# Altium schematic symbol library Nosrati.SchLib: 192 symbols (part 3 of 3)
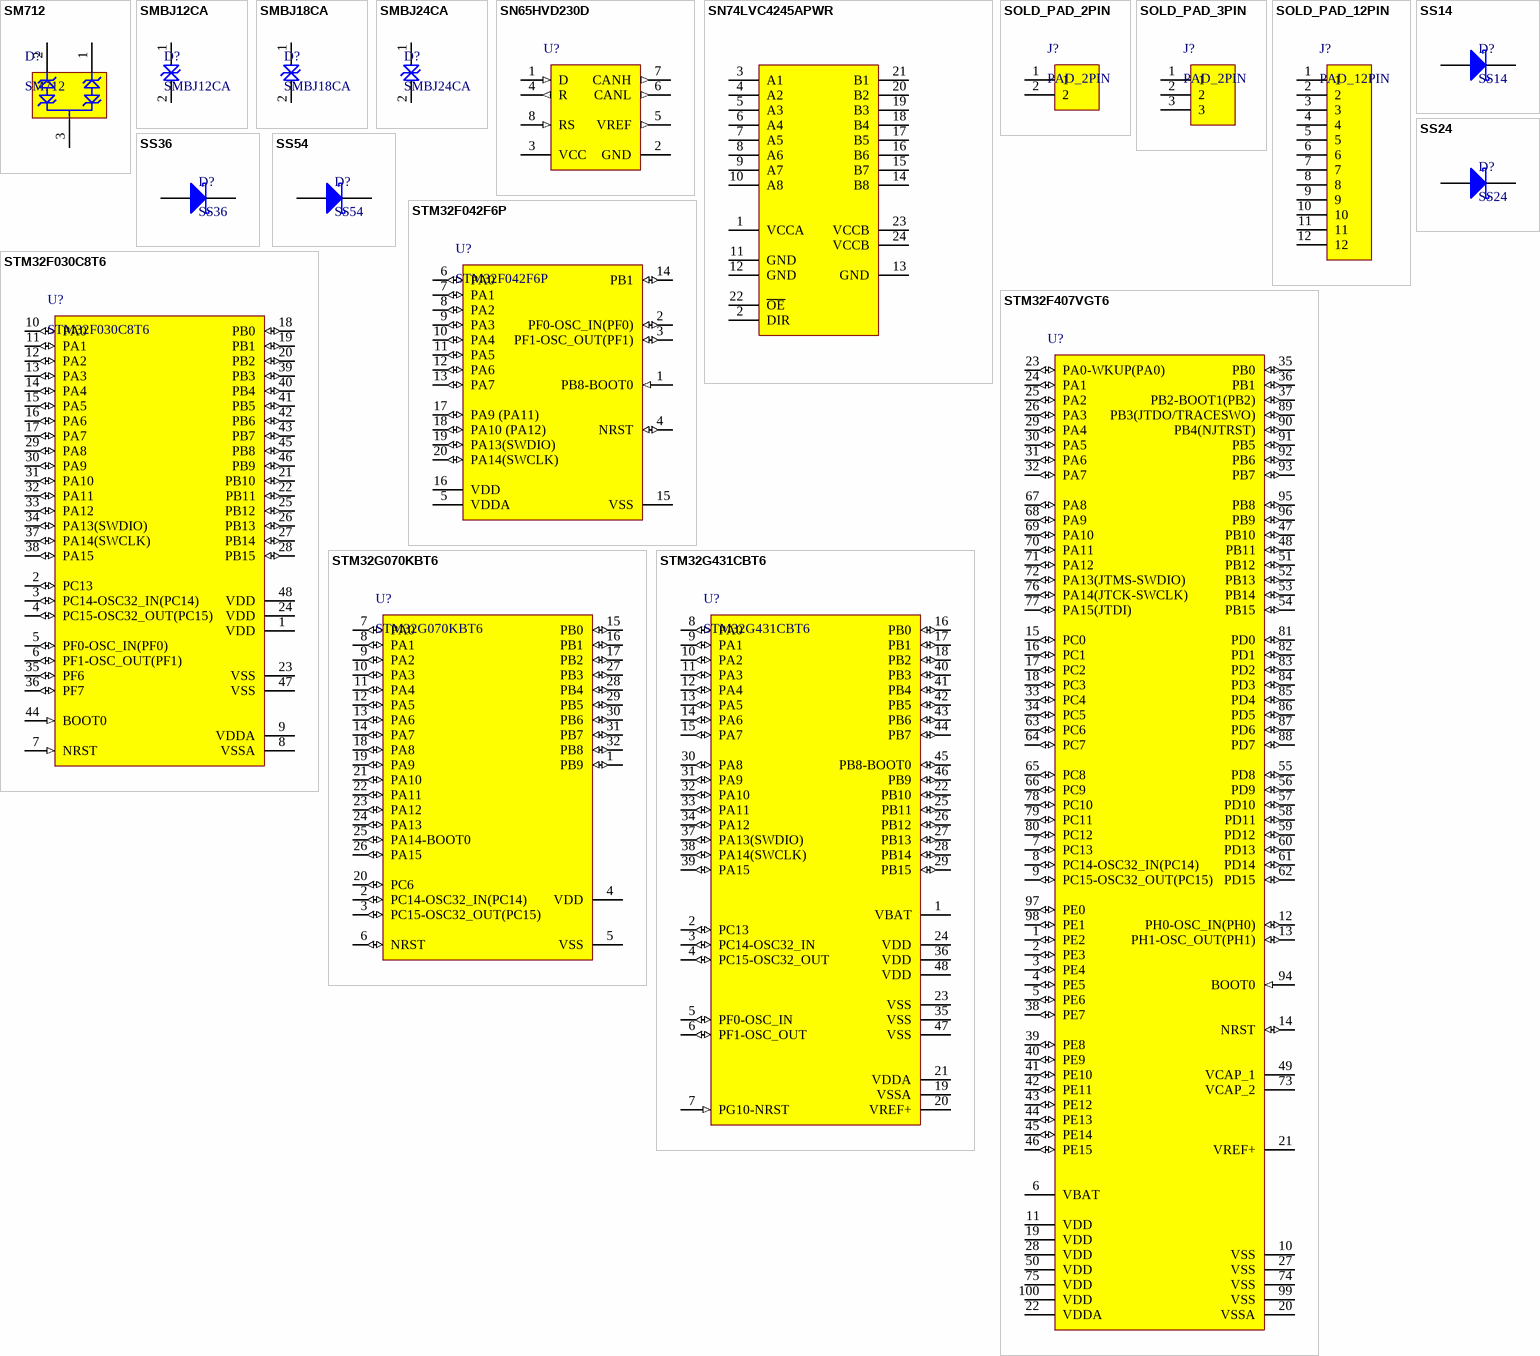
[diagram p7: symbols SM712 to STM32G431CBT6]

## STM32F407VGT6
designator U?
ARM Cortex-M4 32-bit MCU+FPU, 210 DMIPS, 1024 kB Flash, 192 kB Internal RAM, 82 I/Os, 100-pin LQFP, -40 to 85 degC, Tray; Manufacturer: STMicroelectronics; PartNumber: STM32F407VGT6; D/A Converter: 2x12-bit; FLASH Size (Prog) (kB): 1024; I/Os (High Current): 82; Internal RAM Size (kB): 192; Operating Frequency(F) (Processor speed) (MHz): 168; Supply Voltage(Vcc) max (V): 3.6; Supply Voltage(Vcc) min (V): 1.8; DatasheetVersion: Rev. 4; PackageVersion: Rev. 1, 06/2013; PackageReference: LQFP100; PackageDescription: 100-Pin Low Profile Quad Flat Package, 14 x 14 mm Body, 0.5 mm Pitch; Supplier 1: Digi-Key; Supplier Part Number 1: 497-11605-ND; Supplier 2: Farnell; Supplier Part Number 2: 2064368; Supplier 3: Newark; Supplier Part Number 3: 73T2333; Supplier 4: Mouser; Supplier Part Number 4: 511-STM32F407VGT6; Core: ARM Cortex-M4; Packing: Tray; Mounting Technology: Surface Mount; ComponentLink1Description: Manufacturer URL; ComponentLink1URL: http://www.st.com/web/en/home.html; ComponentLink2Description: Datasheet; ComponentLink2URL: http://www.st.com/st-web-ui/static/active/en/resource/technical/document/datasheet/DM00037051.pdf; ComponentLink3Description: Package Specification; ComponentLink3URL: http://www.st.com/st-web-ui/static/active/en/resource/technical/document/data_brief/DM00071938.pdf
footprint LQFP_100_L
footprint LQFP_100_M
footprint LQFP_100_N
pins: 1 PE2 (io) "PE2/TRACECLK/FSMC_A23/ETH_MII_TXD3/EVENTOUT", 2 PE3 (io) "PE3/TRACED0/FSMC_A19/EVENTOUT", 3 PE4 (io) "PE4/TRACED1/FSMC_A20/DCMI_D4/EVENTOUT", 4 PE5 (io) "PE5/TRACED2/FSMC_A21/TIM9_CH1/DCMI_D6/EVENTOUT", 5 PE6 (io) "PE6/TRACED3/FSMC_A22/TIM9_CH2/DCMI_D7/EVENTOUT", 6 VBAT (power), 7 PC13 (io) "PC13/EVENTOUT/RTC_OUT,RTC_TAMP1,RTC_TS", 8 PC14-OSC32_IN(PC14) (io) "PC14-OSC32_IN(PC14)/EVENTOUT/OSC32_IN", 9 PC15-OSC32_OUT(PC15) (io) "PC15-OSC32_OUT(PC15)/EVENTOUT/OSC32_OUT", 10 VSS (power), 11 VDD (power), 12 PH0-OSC_IN(PH0) (io) "PH0-OSC_IN(PH0)/EVENTOUT/OSC_IN", 13 PH1-OSC_OUT(PH1) (io) "PH1-OSC_OUT(PH1)/EVENTOUT/OSC_OUT", 14 NRST (io), 15 PC0 (io) "PC0/OTG_HS_ULPI_STP/EVENTOUT/ADC123_IN10", 16 PC1 (io) "PC1/ETH_MDC/EVENTOUT/ADC123_IN11", 17 PC2 (io) "PC2/SPI2_MISO/OTG_HS_ULPI_DIR/ETH_MII_TXD2/I2S2ext_SD/EVENTOUT/ADC123_IN12", 18 PC3 (io) "PC3/SPI2_MOSI/I2S2_SD/OTG_HS_ULPI_NXT/ETH_MII_TX_CLK/EVENTOUT/ADC123_IN13", 19 VDD (power), 20 VSSA (power), 21 VREF+ (power), 22 VDDA (power), 23 PA0-WKUP(PA0) (io) "PA0-WKUP(PA0)/USART2_CTS/UART4_TX/ETH_MII_CRS/TIM2_CH1_ETR/TIM5_CH1/TIM8_ETR/EVENTOUT/ADC123_IN0/WKUP", 24 PA1 (io) "PA1/USART2_RTS/UART4_RX/ETH_RMII_REF_CLK/ETH_MII_RX_CLK/TIM5_CH2/TIM2_CH2/EVENTOUT/ADC123_IN1", 25 PA2 (io) "PA2/USART2_TX/TIM5_CH3/TIM9_CH1/TIM2_CH3/ETH_MDIO/EVENTOUT/ADC123_IN2", 26 PA3 (io) "PA3/USART2_RX/TIM5_CH4/TIM9_CH2/TIM2_CH4/OTG_HS_ULPI_D0/ETH_MII_COL/EVENTOUT/ADC123_IN3", 27 VSS (power), 28 VDD (power), 29 PA4 (io) "PA4/SPI1_NSS/SPI3_NSS/USART2_CK/DCMI_HSYNC/OTG_HS_SOF/I2S3_WS/EVENTOUT/ADC12_IN4/DAC_OUT1", 30 PA5 (io) "PA5/SPI1_SCK/OTG_HS_ULPI_CK/TIM2_CH1_ETR/TIM8_CH1N/EVENTOUT/ADC12_IN5/DAC_OUT2", 31 PA6 (io) "PA6/SPI1_MISO/TIM8_BKIN/TIM13_CH1/DCMI_PIXCLK/TIM3_CH1/TIM1_BKIN/EVENTOUT/ADC12_IN6", 32 PA7 (io) "PA7/SPI1_MOSI/TIM8_CH1N/TIM14_CH1/TIM3_CH2/ETH_MII_RX_DV/TIM1_CH1N/ETH_RMII_CRS_DV/EVENTOUT/ADC12_IN7", 33 PC4 (io) "PC4/ETH_RMII_RX_D0/ETH_MII_RX_D0/EVENTOUT/ADC12_IN14", 34 PC5 (io) "PC5/ETH_RMII_RX_D1/ETH_MII_RX_D1/EVENTOUT/ADC12_IN15", 35 PB0 (io) "PB0/TIM3_CH3/TIM8_CH2N/OTG_HS_ULPI_D1/ETH_MII_RXD2/TIM1_CH2N/EVENTOUT/ADC12_IN8", 36 PB1 (io) "PB1/TIM3_CH4/TIM8_CH3N/OTG_HS_ULPI_D2/ETH_MII_RXD3/TIM1_CH3N/EVENTOUT/ADC12_IN9", 37 PB2-BOOT1(PB2) (io) "PB2-BOOT1(PB2)/EVENTOUT", 38 PE7 (io) "PE7/FSMC_D4/TIM1_ETR/EVENTOUT", 39 PE8 (io) "PE8/FSMC_D5/TIM1_CH1N/EVENTOUT", 40 PE9 (io) "PE9/FSMC_D6/TIM1_CH1/EVENTOUT", 41 PE10 (io) "PE10/FSMC_D7/TIM1_CH2N/EVENTOUT", 42 PE11 (io) "PE11/FSMC_D8/TIM1_CH2/EVENTOUT", 43 PE12 (io) "PE12/FSMC_D9/TIM1_CH3N/EVENTOUT", 44 PE13 (io) "PE13/FSMC_D10/TIM1_CH3/EVENTOUT", 45 PE14 (io) "PE14/FSMC_D11/TIM1_CH4/EVENTOUT", 46 PE15 (io) "PE15/FSMC_D12/TIM1_BKIN/EVENTOUT", 47 PB10 (io) "PB10/SPI2_SCK/I2S2_CK/I2C2_SCL/USART3_TX/OTG_HS_ULPI_D3/ETH_MII_RX_ER/TIM2_CH3/EVENTOUT", 48 PB11 (io) "PB11/I2C2_SDA/USART3_RX/OTG_HS_ULPI_D4/ETH_RMII_TX_EN/ETH_MII_TX_EN/TIM2_CH4/EVENTOUT", 49 VCAP_1 (power), 50 VDD (power), 51 PB12 (io) "PB12/SPI2_NSS/I2S2_WS/I2C2_SMBA/USART3_CK/TIM1_BKIN/CAN2_RX/OTG_HS_ULPI_D5/ETH_RMII_TXD0/ETH_MII_TXD0/OTG_HS_ID/EVENTOUT", 52 PB13 (io) "PB13/SPI2_SCK/I2S2_CK/USART3_CTS/TIM1_CH1N/CAN2_TX/OTG_HS_ULPI_D6/ETH_RMII_TXD1/ETH_MII_TXD1/EVENTOUT/OTG_HS_VBUS", 53 PB14 (io) "PB14/SPI2_MISO/TIM1_CH2N/TIM12_CH1/OTG_HS_DM/USART3_RTS/TIM8_CH2N/I2S2ext_SD/EVENTOUT", 54 PB15 (io) "PB15/SPI2_MOSI/I2S2_SD/TIM1_CH3N/TIM8_CH3N/TIM12_CH2/OTG_HS_DP/EVENTOUT/RTC_REFIN", 55 PD8 (io) "PD8/FSMC_D13/USART3_TX/EVENTOUT", 56 PD9 (io) "PD9/FSMC_D14/USART3_RX/EVENTOUT", 57 PD10 (io) "PD10/FSMC_D15/USART3_CK/EVENTOUT", 58 PD11 (io) "PD11/FSMC_CLE/FSMC_A16/USART3_CTS/EVENTOUT", 59 PD12 (io) "PD12/FSMC_ALE/FSMC_A17/TIM4_CH1/USART3_RTS/EVENTOUT", 60 PD13 (io) "PD13/FSMC_A18/TIM4_CH2/EVENTOUT", 61 PD14 (io) "PD14/FSMC_D0/TIM4_CH3/EVENTOUT", 62 PD15 (io) "PD15/FSMC_D1/TIM4_CH4/EVENTOUT", 63 PC6 (io) "PC6/I2S2_MCK/TIM8_CH1/SDIO_D6/USART6_TX/DCMI_D0/TIM3_CH1/EVENTOUT", 64 PC7 (io) "PC7/I2S3_MCK/TIM8_CH2/SDIO_D7/USART6_RX/DCMI_D1/TIM3_CH2/EVENTOUT", 65 PC8 (io) "PC8/TIM8_CH3/SDIO_D0/TIM3_CH3/USART6_CK/DCMI_D2/EVENTOUT", 66 PC9 (io) "PC9/I2S_CKIN/MCO2/TIM8_CH4/SDIO_D1/I2C3_SDA/DCMI_D3/TIM3_CH4/EVENTOUT", 67 PA8 (io) "PA8/MCO1/USART1_CK/TIM1_CH1/I2C3_SCL/OTG_FS_SOF/EVENTOUT", 68 PA9 (io) "PA9/USART1_TX/TIM1_CH2/I2C3_SMBA/DCMI_D0/EVENTOUT/OTG_FS_VBUS", 69 PA10 (io) "PA10/USART1_RX/TIM1_CH3/OTG_FS_ID/DCMI_D1/EVENTOUT", 70 PA11 (io) "PA11/USART1_CTS/CAN1_RX/TIM1_CH4/OTG_FS_DM/EVENTOUT", 71 PA12 (io) "PA12/USART1_RTS/CAN1_TX/TIM1_ETR/OTG_FS_DP/EVENTOUT", 72 PA13(JTMS-SWDIO) (io) "PA13(JTMS-SWDIO)/JTMS-SWDIO/EVENTOUT", 73 VCAP_2 (power), 74 VSS (power), 75 VDD (power), 76 PA14(JTCK-SWCLK) (io) "PA14(JTCK-SWCLK)/JTCK-SWCLK/EVENTOUT", 77 PA15(JTDI) (io) "PA15(JTDI)/JTDI/SPI3_NSS/I2S3_WS/TIM2_CH1_ETR/SPI1_NSS/EVENTOUT", 78 PC10 (io) "PC10/SPI3_SCK/I2S3_CK/UART4_TX/SDIO_D2/DCMI_D8/USART3_TX/EVENTOUT", 79 PC11 (io) "PC11/UART4_RX/SPI3_MISO/SDIO_D3/DCMI_D4/USART3_RX/I2S3ext_SD/EVENTOUT", 80 PC12 (io) "PC12/UART5_TX/SDIO_CK/DCMI_D9/SPI3_MOSI/I2S3_SD/USART3_CK/EVENTOUT", 81 PD0 (io) "PD0/FSMC_D2/CAN1_RX/EVENTOUT", 82 PD1 (io) "PD1/FSMC_D3/CAN1_TX/EVENTOUT", 83 PD2 (io) "PD2/TIM3_ETR/UART5_RX/SDIO_CMD/DCMI_D11/EVENTOUT", 84 PD3 (io) "PD3/FSMC_CLK/USART2_CTS/EVENTOUT", 85 PD4 (io) "PD4/FSMC_NOE/USART2_RTS/EVENTOUT", 86 PD5 (io) "PD5/FSMC_NWE/USART2_TX/EVENTOUT", 87 PD6 (io) "PD6/FSMC_NWAIT/USART2_RX/EVENTOUT", 88 PD7 (io) "PD7/USART2_CK/FSMC_NE1/FSMC_NCE2/EVENTOUT", 89 PB3(JTDO/TRACESWO) (io) "PB3(JTDO/TRACESWO)/JTDO/TRACESWO/SPI3_SCK/I2S3_CK/TIM2_CH2/SPI1_SCK/EVENTOUT", 90 PB4(NJTRST) (io) "PB4(NJTRST)/NJTRST/SPI3_MISO/TIM3_CH1/SPI1_MISO/I2S3ext_SD/EVENTOUT", 91 PB5 (io) "PB5/I2C1_SMBA/CAN2_RX/OTG_HS_ULPI_D7/ETH_PPS_OUT/TIM3_CH2/SPI1_MOSI/SPI3_MOSI/DCMI_D10/I2S3_SD/EVENTOUT", 92 PB6 (io) "PB6/I2C1_SCL/TIM4_CH1/CAN2_TX/DCMI_D5/USART1_TX/EVENTOUT", 93 PB7 (io) "PB7/I2C1_SDA/FSMC_NL/DCMI_VSYNC/USART1_RX/TIM4_CH2/EVENTOUT", 94 BOOT0 (in) "BOOT0/VPP", 95 PB8 (io) "PB8/TIM4_CH3/SDIO_D4/TIM10_CH1/DCMI_D6/ETH_MII_TXD3/I2C1_SCL/CAN1_RX/EVENTOUT", 96 PB9 (io) "PB9/SPI2_NSS/I2S2_WS/TIM4_CH4/TIM11_CH1/SDIO_D5/DCMI_D7/I2C1_SDA/CAN1_TX/EVENTOUT", 97 PE0 (io) "PE0/TIM4_ETR/FSMC_NBL0/DCMI_D2/EVENTOUT", 98 PE1 (io) "PE1/FSMC_NBL1/DCMI_D3/EVENTOUT", 99 VSS (power), 100 VDD (power)

## STM32G070KBT6
designator U?
Arm Cortex-M0+ 32-bit MCU, 128 KB Flash, 36 KB RAM, / 4x USART, timers, ADC, comm. I/Fs, 2.0-3.6V
footprint LQFP32_L (QFP, 32-Leads, Body 7x7mm, Pitch 0.8mm, IPC High Density)
footprint LQFP32_M (QFP, 32-Leads, Body 7x7mm, Pitch 0.8mm, IPC Low Density)
footprint LQFP32_N (QFP, 32-Leads, Body 7x7mm, Pitch 0.8mm, IPC Medium Density)
pins: 1 PB9 (io) "PB9/IR_OUT, TIM17_CH1,USART3_RX, SPI2_NSS,EVENTOUT", 2 PC14-OSC32_IN(PC14) (io) "PC14-OSC32_IN(PC14)/OSC32_IN", 3 PC15-OSC32_OUT(PC15) (io) "PC15-OSC32_OUT(PC15)/OSC32_OUT", 4 VDD (power) "Digital power supply", 5 VSS (power) "Ground", 6 NRST (io) "Device reset input / internal reset output (active low)", 7 PA0 (io) "PA0/SPI2_SCK, USART2_CTS,USART4_TX", 8 PA1 (io) "PA1/SPI1_SCK/I2S1_CK,USART2_RTS_DE_CK,USART4_RX, TIM15_CH1N,I2C1", 9 PA2 (io) "PA2/SPI1_MOSI/I2S1_SD,USART2_TX, TIM15_CH1", 10 PA3 (io) "PA3/SPI2_MISO, USART2_RX,TIM15_CH2, EVENTOUT", 11 PA4 (io) "PA4/SPI1_NSS/I2S1_WS,SPI2_MOSI, TIM14_CH1,EVENTOUT", 12 PA5 (io) "PA5/SPI1_SCK/I2S1_CK,USART3_TX, EVENTOUT", 13 PA6 (io) "PA6/SPI1_MISO/I2S1_MCK,TIM3_CH1, TIM1_BKIN,USART3_CTS, TIM16_CH1", 14 PA7 (io) "PA7/SPI1_MOSI/I2S1_SD,TIM3_CH2, TIM1_CH1N,TIM14_CH1, TIM17_CH1", 15 PB0 (io) "PB0/SPI1_NSS/I2S1_WS,TIM3_CH3, TIM1_CH2N,USART3_RX", 16 PB1 (io) "PB1/TIM14_CH1, TIM3_CH4,TIM1_CH3N,USART3_RTS_DE_CK,EVENTOUT", 17 PB2 (io) "PB2/SPI2_MISO, USART3_TX,EVENTOUT", 18 PA8 (io) "PA8/MCO, SPI2_NSS, TIM1_CH1, EVENTOUT", 19 PA9 (io) "PA9/MCO, USART1_TX, TIM1_CH2,SPI2_MISO, TIM15_BKIN,I2C1_SCL, EVENTOUT", 20 PC6 (io) "PC6/TIM3_CH1", 21 PA10 (io) "PA10/SPI2_MOSI, USART1_RX,TIM1_CH3, TIM17_BKIN,I2C1_SDA, EVENTOUT", 22 PA11 (io) "PA11/SPI1_MISO/I2S1_MCK,USART1_CTS, TIM1_CH4,TIM1_BKIN2, I2C2_SCL", 23 PA12 (io) "PA12/SPI1_MOSI/I2S1_SD,USART1_RTS_DE_CK,TIM1_ETR, I2S_CKIN,I2C2_SDA", 24 PA13 (io) "PA13/SWDIO, IR_OUT, EVENTOUT", 25 PA14-BOOT0 (io) "PA14-BOOT0/SWCLK, USART2_TX,EVENTOUT", 26 PA15 (io) "PA15/SPI1_NSS/I2S1_WS, USART2_RX,USART4_RTS_DE_CK,USART3_RTS_DE_CK,EVENTOUT", 27 PB3 (io) "PB3/SPI1_SCK/I2S1_CK, TIM1_CH2,USART1_RTS_DE_CK,EVENTOUT", 28 PB4 (io) "PB4/SPI1_MISO/I2S1_MCK,TIM3_CH1, USART1_CTS,TIM17_BKIN, EVENTOUT", 29 PB5 (io) "PB5/SPI1_MOSI/I2S1_SD,TIM3_CH2, TIM16_BKIN,I2C1_SMBA", 30 PB6 (io) "PB6/USART1_TX, TIM1_CH3,TIM16_CH1N, SPI2_MISO,I2C1_SCL, EVENTOUT", 31 PB7 (io) "PB7/USART1_RX, SPI2_MOSI,TIM17_CH1N, USART4_CTS,I2C1_SDA, EVENTOUT", 32 PB8 (io) "PB8/SPI2_SCK, TIM16_CH1,USART3_TX, TIM15_BKIN,I2C1_SCL, EVENTOUT"

## STM32G431CBT6
designator U?
Arm Cortex-M4 32-bit MCU+FPU, 170 MHz /213 DMIPS, / up to 128 KB Flash, 32 KB SRAM, rich analog, math accelerator
footprint LQFP48_L (QFP, 48-Leads, Body 7x7mm, Pitch 0.5mm, IPC High Density)
footprint LQFP48_M (QFP, 48-Leads, Body 7x7mm, Pitch 0.5mm, IPC Low Density)
footprint LQFP48_N (QFP, 48-Leads, Body 7x7mm, Pitch 0.5mm, IPC Medium Density)
pins: 1 VBAT (power), 2 PC13 (io) "TIM1_BKIN, TIM1_CH1N, TIM8_CH4N, EVENTOUT", 3 PC14-OSC32_IN (io) "EVENTOUT", 4 PC15-OSC32_OUT (io) "EVENTOUT", 5 PF0-OSC_IN (io) "I2C2_SDA,SPI2_NSS/I2S2_WS, TIM1_CH3N, EVENTOUT", 6 PF1-OSC_OUT (io) "SPI2_SCK/I2S2_CK,EVENTOUT", 7 PG10-NRST (in) "Device reset input / internal reset output (active low)", 8 PA0 (io) "TIM2_CH1,USART2_CTS, COMP1_OUT, TIM8_BKIN, TIM8_ETR,TIM2_ETR, EVENTOUT", 9 PA1 (io) "LPTIM1_OUT, TIM1_CH2,LPUART1_TX,SAI1_SD_A,EVENTOUT", 10 PA2 (io) "TIM2_CH3, USART2_TX, COMP2_OUT, TIM15_CH1,LPUART1_TX, UCPD1_FRSTX,EVENTOUT", 11 PA3 (io) "TIM2_CH4, SAI1_CK1,USART2_RX, TIM15_CH2,LPUART1_RX, SAI1_MCLK_A,EVENTOUT", 12 PA4 (io) "TIM3_CH2, SPI1_NSS, SPI3_NSS/I2S3_WS, USART2_CK,SAI1_FS_B,EVENTOUT", 13 PA5 (io) "TIM2_CH1, TIM2_ETR, SPI1_SCK, UCPD1_FRSTX, EVENTOUT", 14 PA6 (io) "TIM16_CH1,TIM3_CH1, TIM8_BKIN,SPI1_MISO, TIM1_BKIN,COMP1_OUT,LPUART1_CTS,EVENTOUT", 15 PA7 (io) "TIM17_CH1,TIM3_CH2, TIM8_CH1N, SPI1_MOSI, TIM1_CH1N, COMP2_OUTUCPD1_FRSTX,EVENTOUT", 16 PB0 (io) "TIM3_CH3,TIM8_CH2N, TIM1_CH2N,UCPD1_FRSTX, EVENTOUT", 17 PB1 (io) "TIM3_CH4,TIM8_CH3N,TIM1_CH3N, COMP4_OUT,LPUART1_RTS_DE,EVENTOUT", 18 PB2 (io) "RTC_OUT2,LPTIM1_OUT,I2C3_SMBA, EVENTOUT", 19 VSSA (power) "Analog ground", 20 VREF+ (power), 21 VDDA (power) "Analog power supply", 22 PB10 (io) "TIM2_CH3,USART3_TX, LPUART1_RX, TIM1_BKIN,SAI1_SCK_A,EVENTOUT", 23 VSS (power) "Ground", 24 VDD (power) "Digital power supply", 25 PB11 (io) "TIM2_CH4, USART3_RX,LPUART1_TX, EVENTOUT", 26 PB12 (io) "I2C2_SMBA, SPI2_NSS/I2S2_WS, TIM1_BKIN,I2S2_WS, TIM1_BKIN,USART3_CK, LPUART1_RTS_DE,EVENTOUT", 27 PB13 (io) "SPI2_SCK/I2S2_CK,TIM1_CH1N,USART3_CTS, LPUART1_CTS, EVENTOUT", 28 PB14 (io) "TIM15_CH1, SPI2_MISO, TIM1_CH2N,USART3_RTS_DE, COMP4_OUT, EVENTOUT", 29 PB15 (io) "RTC_REFIN,TIM15_CH2TIM15_CH1N,COMP3_OUT,TIM1_CH3N,SPI2_MOSI/I2S2_SD,EVENTOUT", 30 PA8 (io) "MCO, I2C3_SCL, I2C2_SDA, I2S2_MCK,TIM1_CH1,USART1_CKTIM4_ETR, SAI1_CK2, SAI1_SCK_AEVENTOUT", 31 PA9 (io) "I2C3_SMBA, I2C2_SCL, I2S3_MCK, TIM1_CH2,USART1_TX, TIM15_BKIN,TIM2_CH3, SAI1_FS_A, EVENTOUT", 32 PA10 (io) "TIM17_BKIN, USB_CRS_SYNC, I2C2_SMBA, SPI2_MISO, TIM1_CH3,USART1_RX, TIM2_CH4, TIM8_BKIN,SAI1_D1, SAI1_SD_A,EVENTOUT", 33 PA11 (io) "SPI2_MOSI/I2S2_SD,TIM1_CH1N,USART1_CTS,COMP1_OUT,FDCAN1_RX,TIM4_CH1,TIM1_CH4,TIM1_BKIN2,EVENTOUT", 34 PA12 (io) "TIM16_CH1,I2SCKIN,TIM1_CH2N, USART1_RTS_DE,COMP2_OUT,FDCAN1_TX,TIM4_CH2,TIM1_ETR,EVENTOUT", 35 VSS (power) "Ground", 36 VDD (power) "Digital power supply", 37 PA13(SWDIO) (io) "SWDIO-JTMS,TIM16_CH1N,I2C1_SCL,IR_OUT,USART3_CTS,TIM4_CH3,SAI1_SD_B,EVENTOUT", 38 PA14(SWCLK) (io) "SWCLK-JTCK,LPTIM1_OUT,I2C1_SDA,TIM8_CH2,TIM1_BKIN,USART2_TX,SAI1_FS_B,EVENTOUT", 39 PA15 (io) "JTDI, TIM2_CH1, TIM8_CH1, I2C1_SCL, SPI1_NSS, SPI3_NSS/I2S3_WS, USART2_RX,UART4_RTS_DE, TIM1_BKIN, TIM2_ETR,EVENTOUT", 40 PB3 (io) "JTDO-TRACESWO, TIM2_CH2, TIM4_ETR,USB_CRS_SYNC,TIM8_CH1N, SPI1_SCK, SPI3_SCK/I2S3_CK,USART2_TX,TIM3_ETR,SAI1_SCK_B,EVENTOUT", 41 PB4 (io) "JTRST,TIM16_CH1,TIM3_CH1,TIM8_CH2N,SPI1_MISO,SPI3_MISO,USART2_RX,TIM17_BKIN,SAI1_MCLK_B,EVENTOUT", 42 PB5 (io) "TIM16_BKIN,TIM3_CH2,TIM8_CH3N,I2C1_SMBA,SPI1_MOSI,SPI3_MOSI/I2S3_SD,USART2_CK,I2C3_SDA, TIM17_CH1,LPTIM1_IN1,SAI1_SD_B,EVENTOUT", 43 PB6 (io) "TIM16_CH1N,TIM4_CH1, TIM8_CH1,TIM8_ETR,USART1_TX,COMP4_OUTTIM8_BKIN2,LPTIM1_ETR,SAI1_FS_B,EVENTOUT", 44 PB7 (io) "TIM17_CH1N,TIM4_CH2, I2C1_SDA,TIM8_BKIN,USART1_RX,COMP3_OUT,TIM3_CH4,LPTIM1_IN2,UART4_CTS,EVENTOUT", 45 PB8-BOOT0 (io) "TIM16_CH1,TIM4_CH3, SAI1_CK1,I2C1_SCL,USART3_RX,COMP1_OUT,FDCAN1_RX,TIM8_CH2, TIM1_BKIN,SAI1_MCLK_A,EVENTOUT", 46 PB9 (io) "TIM17_CH1,TIM4_CH4,SAI1_D2, I2C1_SDA,IR_OUT, USART3_TX,COMP2_OUT,FDCAN1_TX,TIM8_CH3,TIM1_CH3N,SAI1_FS_A,EVENTOUT", 47 VSS (power) "Ground", 48 VDD (power) "Digital power supply"

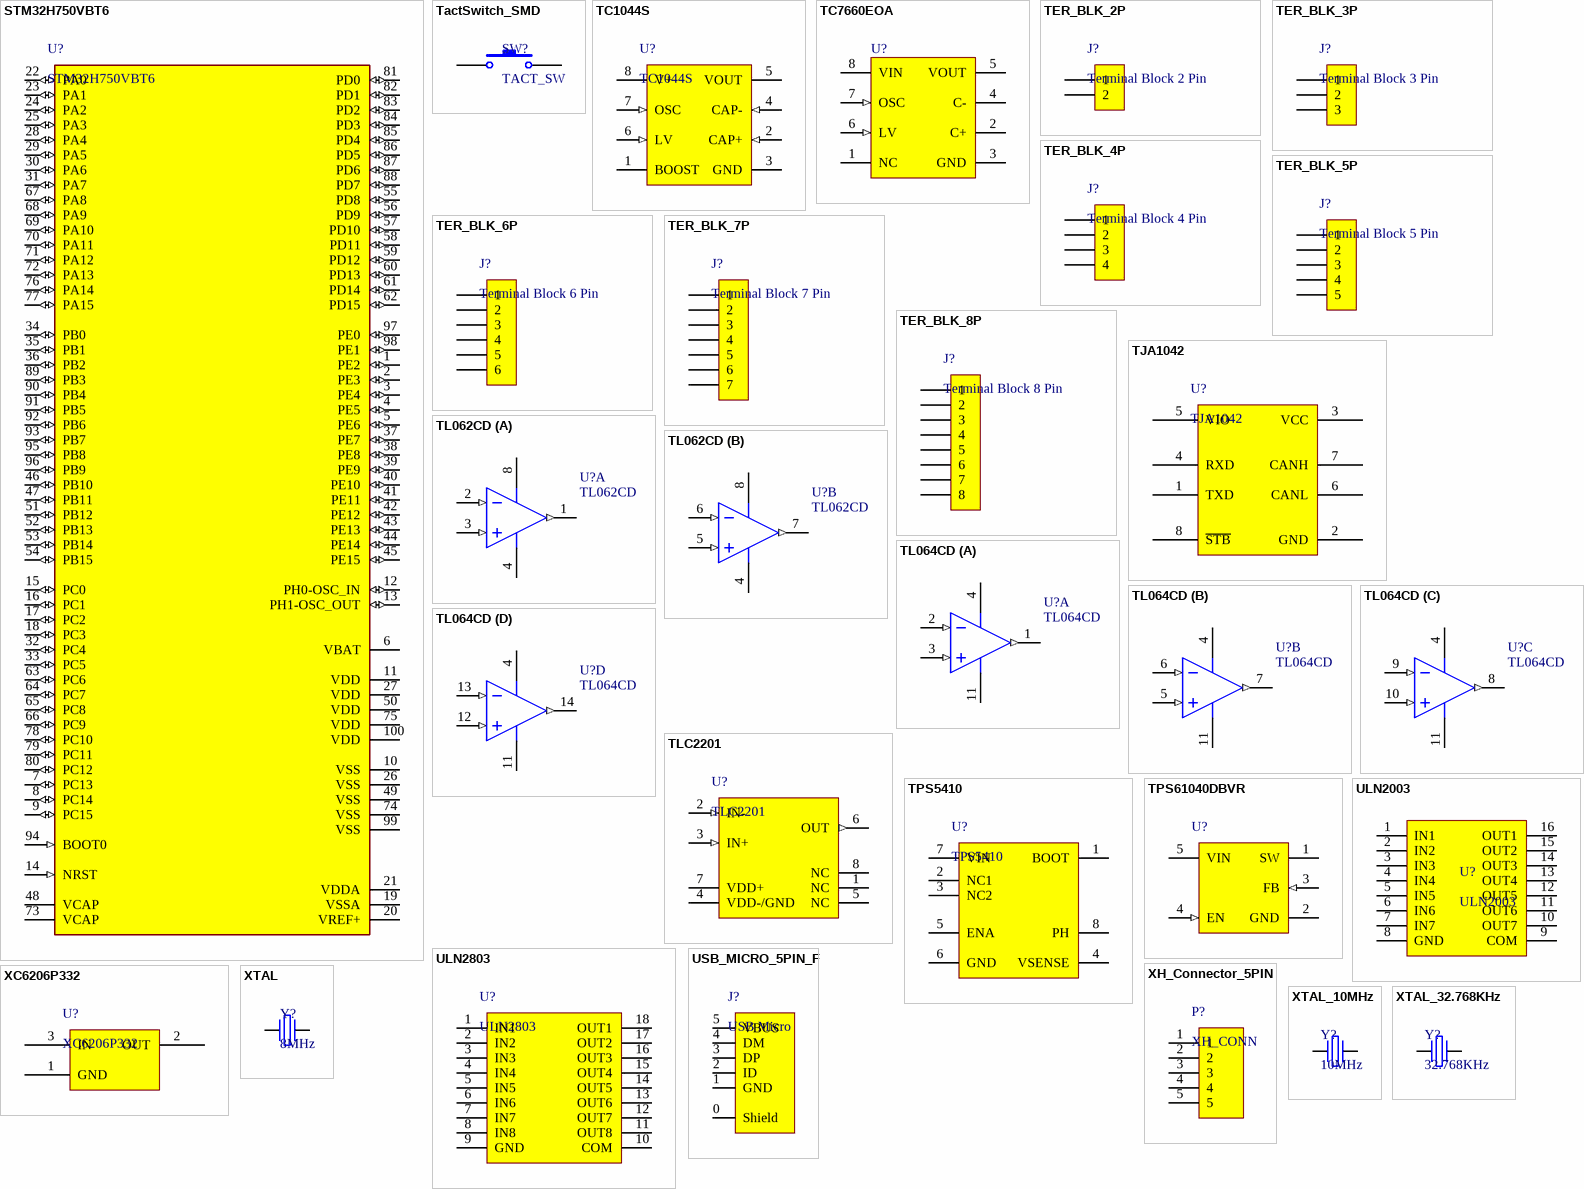
[diagram p5: symbols STM32H750VBT6 to XTAL_32.768KHz]

## STM32H750VBT6
designator U?
ARMÂ® CortexÂ®-M7 STM32H7 Microcontroller IC 32-Bit 480MHz 128KB _128K x 8_ FLASH 100-LQFP _14x14_
footprint LQFP_100_L
footprint LQFP_100_M
footprint LQFP_100_N
pins: 1 PE2 (io), 2 PE3 (io), 3 PE4 (io), 4 PE5 (io), 5 PE6 (io), 6 VBAT (power), 7 PC13 (io), 8 PC14 (io), 9 PC15 (io), 10 VSS (power), 11 VDD (power), 12 PH0-OSC_IN (io), 13 PH1-OSC_OUT (io), 14 NRST (in), 15 PC0 (io), 16 PC1 (io), 17 PC2 (io), 18 PC3 (io), 19 VSSA (power), 20 VREF+ (power), 21 VDDA (power), 22 PA0 (io), 23 PA1 (io), 24 PA2 (io), 25 PA3 (io), 26 VSS (power), 27 VDD (power), 28 PA4 (io), 29 PA5 (io), 30 PA6 (io), 31 PA7 (io), 32 PC4 (io), 33 PC5 (io), 34 PB0 (io), 35 PB1 (io), 36 PB2 (io), 37 PE7 (io), 38 PE8 (io), 39 PE9 (io), 40 PE10 (io), 41 PE11 (io), 42 PE12 (io), 43 PE13 (io), 44 PE14 (io), 45 PE15 (io), 46 PB10 (io), 47 PB11 (io), 48 VCAP (power), 49 VSS (power), 50 VDD (power), 51 PB12 (io), 52 PB13 (io), 53 PB14 (io), 54 PB15 (io), 55 PD8 (io), 56 PD9 (io), 57 PD10 (io), 58 PD11 (io), 59 PD12 (io), 60 PD13 (io), 61 PD14 (io), 62 PD15 (io), 63 PC6 (io), 64 PC7 (io), 65 PC8 (io), 66 PC9 (io), 67 PA8 (io), 68 PA9 (io), 69 PA10 (io), 70 PA11 (io), 71 PA12 (io), 72 PA13 (io), 73 VCAP (power), 74 VSS (power), 75 VDD (power), 76 PA14 (io), 77 PA15 (io), 78 PC10 (io), 79 PC11 (io), 80 PC12 (io), 81 PD0 (io), 82 PD1 (io), 83 PD2 (io), 84 PD3 (io), 85 PD4 (io), 86 PD5 (io), 87 PD6 (io), 88 PD7 (io), 89 PB3 (io), 90 PB4 (io), 91 PB5 (io), 92 PB6 (io), 93 PB7 (io), 94 BOOT0 (in), 95 PB8 (io), 96 PB9 (io), 97 PE0 (io), 98 PE1 (io), 99 VSS (power), 100 VDD (power)

## TactSwitch_SMD
designator SW?, comment TACT_SW
footprint TACT_SW_SMD(4*4)
pins: 1, 2

## TC1044S
designator U?
Charge Pump DC-TO-DC Voltage Converter,1.5V to 12V
footprint SOIC8_L (SOIC, 8-Leads, Body 4.9x3.9mm, Pitch 1.27mm, IPC High Density)
footprint SOIC8_M (SOIC, 8-Leads, Body 4.9x3.9mm, Pitch 1.27mm, IPC Low Density)
footprint SOIC8_N (SOIC, 8-Leads, Body 4.9x3.9mm, Pitch 1.27mm, IPC Medium Density)
pins: 1 BOOST, 2 CAP+ (in), 3 GND (power), 4 CAP- (in), 5 VOUT (power), 6 LV (in), 7 OSC (in), 8 V+ (power)

## TC7660EOA
designator U?
Charge Pump DC-to-DC Voltage Converter, 8-Pin SOIC 150mil, Industrial Temperature, 1.5V to 10V; DatasheetVersion: revB, Nov-2002; PackageVersion: revBB, Aug-2009; PackageReference: SOIC-OA8; PackageDescription: 8-Lead Plastic Small Outline (OA) - Narrow, 3.90mm Body [SOIC]; Code_IPC: SOIC127P600-8; ComponentLink1Description: Manufacturer URL; ComponentLink1URL: http://www.microchip.com/; ComponentLink2Description: Datasheet; ComponentLink2URL: http://ww1.microchip.com/downloads/en/DeviceDoc/21465b.pdf; ComponentLink3Description: Package Specification; ComponentLink3URL: http://www.microchip.com/stellent/groups/techpub_sg/documents/packagingspec/en012702.pdf
footprint SOIC8
pins: 1 NC, 2 C+, 3 GND (power), 4 C-, 5 VOUT (power), 6 LV (in), 7 OSC (in), 8 VIN (power)

## TER_BLK_2P
designator J?, comment Terminal Block 2 Pin
footprint TER_BLK_2P_2.54 (Terminal block 2Pin 2.54mm)
pins: 1, 2

## TER_BLK_3P
designator J?, comment Terminal Block 3 Pin
footprint TER_BLK_3P_2.54 (Terminal block 3Pin 2.54mm)
pins: 1, 2, 3

## TER_BLK_4P
designator J?, comment Terminal Block 4 Pin
footprint TER_BLK_4P_2.54 (Terminal block 4Pin 2.54mm)
pins: 1, 2, 3, 4

## TER_BLK_5P
designator J?, comment Terminal Block 5 Pin
footprint TER_BLK_5P_2.54 (Terminal block 5Pin 2.54mm)
pins: 1, 2, 3, 4, 5

## TER_BLK_6P
designator J?, comment Terminal Block 6 Pin
footprint TER_BLK_6P_2.54 (Terminal block 6Pin 2.54mm)
pins: 1, 2, 3, 4, 5, 6

## TER_BLK_7P
designator J?, comment Terminal Block 7 Pin
footprint TER_BLK_7P_2.54 (Terminal block 7Pin 2.54mm)
pins: 1, 2, 3, 4, 5, 6, 7

## TER_BLK_8P
designator J?, comment Terminal Block 8 Pin
footprint TER_BLK_8P_2.54 (Terminal block 8Pin 2.54mm)
pins: 1, 2, 3, 4, 5, 6, 7, 8

## TJA1042
designator U?
footprint SO8
pins: 1 TXD, 2 GND, 3 VCC, 4 RXD, 5 VIO, 6 CANL, 7 CANH, 8 ~{STB}

## TL062CD
designator U?
Dual Low-Power JFET-Input General-Purpose Operational Amplifier, 7 to 36 V, 0 to 70 degC, 8-pin SOIC (D8), Green (RoHS & no Sb/Br); Manufacturer: Texas Instruments; CMRR(Min)(dB): 70; GBW(Typ)(MHz): 1; IIB(Max)(pA): 400; Iq per channel(Max)(mA): 0.25; Number of Channels: 2; Offset Drift(Typ)(uV/C): 10; Rating: Catalog; Slew Rate(Typ)(V/us): 3.5; Sub Family: General Purpose Amplifier, High Supply Voltage Amplifier (>=30V), Low Power Amp (<=500uA); Total Supply Voltage(Max)(+5V is 5, +/-5V is 10): 36; Total Supply Voltage(Min)(+5V is 5, +/-5V is 10): 7; Vio (25C)(Max)(mV): 15; Vn at 1kHz(Typ)(nV/rtHz): 42; DatasheetVersion: SLOS078J; PackageVersion: 4040047-3/M, 06/2011; PackageReference: D8; PackageDescription: 8-Pin Plastic Small Outline, Body 4.9 x 3.9 mm, Pitch 1.27 mm; Supplier 1: Digi-Key; Supplier Part Number 1: 296-1281-5-ND; Supplier 2: Farnell; Supplier Part Number 2: 1103178; Supplier 3: Newark; Supplier Part Number 3: 08F9229; Supplier 4: Mouser; Supplier Part Number 4: 595-TL062CD; Eco-Plan: Green (RoHS & no Sb/Br); Mounting Technology: Surface Mount; Code_JEDEC: MS-012; PartNumber: TL062CD; ComponentLink1Description: Manufacturer URL; ComponentLink1URL: http://www.ti.com/; ComponentLink2Description: Datasheet; ComponentLink2URL: http://www.ti.com/lit/ds/symlink/tl062.pdf; ComponentLink3Description: Package Specification; ComponentLink3URL: http://www.ti.com/litv/pdf/msoi002j
footprint SOIC8
pins on every part: 4 VCC- (power), 8 VCC+ (power)
part A pins: 1 OUT1 (out), 2 IN1- (in), 3 IN1+ (in)
part B pins: 5 IN2+ (in), 6 IN2- (in), 7 OUT2 (out)

## TL064CD
designator U?
Quad Low-Power JFET-Input General-Purpose Operational Amplifier, 7 to 36 V, 0 to 70 degC, 14-pin SOIC (D14), Green (RoHS & no Sb/Br); Manufacturer: Texas Instruments; CMRR(Min)(dB): 70; GBW(Typ)(MHz): 1; IIB(Max)(pA): 400; Iq per channel(Max)(mA): 0.25; Number of Channels: 4; Offset Drift(Typ)(uV/C): 10; Rating: Catalog; Slew Rate(Typ)(V/us): 3.5; Sub Family: General Purpose Amplifier, High Supply Voltage Amplifier (>=30V), Low Power Amp (<=500uA); Total Supply Voltage(Max)(+5V is 5, +/-5V is 10): 36; Total Supply Voltage(Min)(+5V is 5, +/-5V is 10): 7; Vio (25C)(Max)(mV): 15; Vn at 1kHz(Typ)(nV/rtHz): 42; DatasheetVersion: SLOS078J; PackageVersion: 4040047-5/M, 06/2011; PackageReference: D14; PackageDescription: 14-Pin Plastic Small Outline, Body 8.65 x 3.90 mm, Pitch 1.27 mm; Supplier 1: Digi-Key; Supplier Part Number 1: 296-1772-5-ND; Supplier 2: Farnell; Supplier Part Number 2: 1103181; Supplier 3: Newark; Supplier Part Number 3: 67K2876; Supplier 4: Mouser; Supplier Part Number 4: 595-TL064CD; Eco-Plan: Green (RoHS & no Sb/Br); Mounting Technology: Surface Mount; Code_JEDEC: MS-012; PartNumber: TL064CD; ComponentLink1Description: Manufacturer URL; ComponentLink1URL: http://www.ti.com/; ComponentLink2Description: Datasheet; ComponentLink2URL: http://www.ti.com/lit/ds/symlink/tl064.pdf; ComponentLink3Description: Package Specification; ComponentLink3URL: http://www.ti.com/lit/ml/mpds177g/mpds177g.pdf
footprint SOIC14_N
pins on every part: 4 VCC+ (power), 11 VCC- (power)
part A pins: 1 OUT1 (out), 2 IN1- (in), 3 IN1+ (in)
part B pins: 5 IN2+ (in), 6 IN2- (in), 7 OUT2 (out)
part C pins: 8 OUT3 (out), 9 IN3- (in), 10 IN3+ (in)
part D pins: 12 IN4+ (in), 13 IN4- (in), 14 OUT4 (out)

## TLC2201
designator U?
Advanced LinCMOS  LOW-NOISE PRECISION / OPERATIONAL AMPLIFIERS
footprint SOIC8_L (SOIC, 8-Leads, Body 4.9x3.9mm, Pitch 1.27mm, IPC High Density)
footprint SOIC8_M (SOIC, 8-Leads, Body 4.9x3.9mm, Pitch 1.27mm, IPC Low Density)
footprint SOIC8_N (SOIC, 8-Leads, Body 4.9x3.9mm, Pitch 1.27mm, IPC Medium Density)
pins: 1 NC, 2 IN- (in), 3 IN+ (in), 4 VDD-/GND (power), 5 NC, 6 OUT (out), 7 VDD+ (power), 8 NC

## TPS5410
designator U?
1-A, Wide Input Range, Step-Down Converter
footprint SOIC8
pins: 1 BOOT, 2 NC1, 3 NC2, 4 VSENSE, 5 ENA, 6 GND, 7 VIN, 8 PH

## TPS61040DBVR
designator U?
28 V, 400 mA Switch Boost Converter for White LED Applications, 1.8 to 6 V, -40 to 85 degC, 5-pin SOT23 (DBV5), Green (RoHS & no Sb/Br); Manufacturer: Texas Instruments; PartNumber: TPS61040DBVR; Dimming: TRUE; Iout(Max)(A): 0.09; Iq(Typ)(mA): 0.028; Rating: Catalog; SubFamily: White LED Driver; Switching Frequency(Max)(kHz): 1000; Vin(Max)(V): 6; Vin(Min)(V): 1.8; DatasheetVersion: SLVS413F; PackageVersion: 4073253-4/K; PackageReference: DBV5; PackageDescription: 5-Pin Plastic Small Outline, Body 1.60 Ã— 2.90 mm, Pitch 0.95 mm; Supplier 1: Digi-Key; Supplier Part Number 1: 296-12685-2-ND; Supplier 2: Digi-Key; Supplier Part Number 2: 296-12685-1-ND; Supplier 3: Digi-Key; Supplier Part Number 3: 296-12685-6-ND; Supplier 4: Farnell; Supplier Part Number 4: 1461061; Supplier 5: Farnell; Supplier Part Number 5: 1461061RL; Supplier 6: Newark; Supplier Part Number 6: 35K1326; Supplier 7: Mouser; Supplier Part Number 7: 595-TPS61040DBVR; Eco-Plan: Green (RoHS & no Sb/Br); Topology: Boost; Mounting Technology: Surface Mount; Code_JEDEC: MO-178; ComponentLink1Description: Manufacturer URL; ComponentLink1URL: http://www.ti.com/; ComponentLink2Description: Datasheet; ComponentLink2URL: http://www.ti.com/general/docs/lit/getliterature.tsp?genericPartNumber=TPS61040&fileType=pdf; ComponentLink3Description: Package Specification; ComponentLink3URL: http://www.ti.com/litv/pdf/mpds018i
footprint SOT23-5
pins: 1 SW (power) "Connect the inductor and the Schottky diode to this pin. This is the switch pin and is connected to the drain of the internal power MOSFET.", 2 GND (power) "Ground", 3 FB (in) "This is the feedback pin of the device. Connect this pin to the external voltage divider to program the desired output voltage.", 4 EN (in) "This is the enable pin of the device. Pulling this pin to ground forces the device into shutdown mode reducing the supply current to less than 1 mA. This pin should not be left floating and needs to be terminated.", 5 VIN (power) "Supply voltage pin"

## ULN2003
designator U?
High-current Darlington Transistor Array
footprint SO16
pins: 1 IN1, 2 IN2, 3 IN3, 4 IN4, 5 IN5, 6 IN6, 7 IN7, 8 GND, 9 COM, 10 OUT7, 11 OUT6, 12 OUT5, 13 OUT4, 14 OUT3, 15 OUT2, 16 OUT1

## ULN2803
designator U?
Darlington Transistor Array 18-SOIC -40 to 85
footprint DIP18 (DIP; 18 Leads; Row Spacing 7.62 mm; Pitch 2.54 mm)
footprint SOIC18W_L (SOIC, 18-Leads, Body (Wide) - 11.55x7.5mm, Pitch 1.27mm)
footprint SOIC18W_M (SOIC, 18-Leads, Body (Wide) - 11.55x7.5mm, Pitch 1.27mm)
footprint SOIC18W_N (SOIC, 18-Leads, Body (Wide) - 11.55x7.5mm, Pitch 1.27mm)
pins: 1 IN1 "Input Pair1", 2 IN2 "Input Pair2", 3 IN3 "Input Pair3", 4 IN4 "Input Pair4", 5 IN5 "Input Pair5", 6 IN6 "Input Pair6", 7 IN7 "Input Pair7", 8 IN8 "Input Pair8", 9 GND "Common Emitter (ground)", 10 COM "Common Clamp Diodes", 11 OUT8 "Output pair8", 12 OUT7 "Output pair7", 13 OUT6 "Output pair6", 14 OUT5 "Output pair5", 15 OUT4 "Output pair4", 16 OUT3 "Output pair3", 17 OUT2 "Output pair2", 18 OUT1 "Output pair1"

## USB_MICRO_5PIN_F
designator J?, comment USB Micro
footprint USB_MICRO_5PIN_F
pins: 0 Shield, 1 GND, 2 ID, 3 DP, 4 DM, 5 VBUS

## XC6206P332
designator U?
Low ESR Cap. Compatible Positive Voltage regulators
footprint SOT23_L
footprint SOT23_M
footprint SOT23_N
pins: 1 GND, 2 OUT, 3 IN

## XH_Connector_5PIN
designator P?, comment XH_CONN
footprint XHCONN_DIP(2.5)_5PIN
pins: 1, 2, 3, 4, 5

## XTAL
designator Y?, comment 8MHz
footprint Xtal 2p
footprint Xtal 2p COMBO
footprint XTALL_SMD_2P
footprint XTAL_SMD_MC-405
footprint Xtal_SMD_CM2012
footprint Xtal_SMD_32.782khz
footprint XTAL_SMD_3.2x5
pins: 1, 2

## XTAL_10MHz
designator Y?, comment 10MHz
footprint XTALL_HC-49U SMD (12.4mmX4.5mm)
pins: 1, 2

## XTAL_32.768KHz
designator Y?, comment 32.768KHz
footprint XTALL 3215 (3.2 L x 1.5 W x 0.75 H)
pins: 1, 2